# Altium schematic symbol library GPU.SchLib: 3 symbols
Pins are listed as number, name and electrical type; pins without a type are passive.

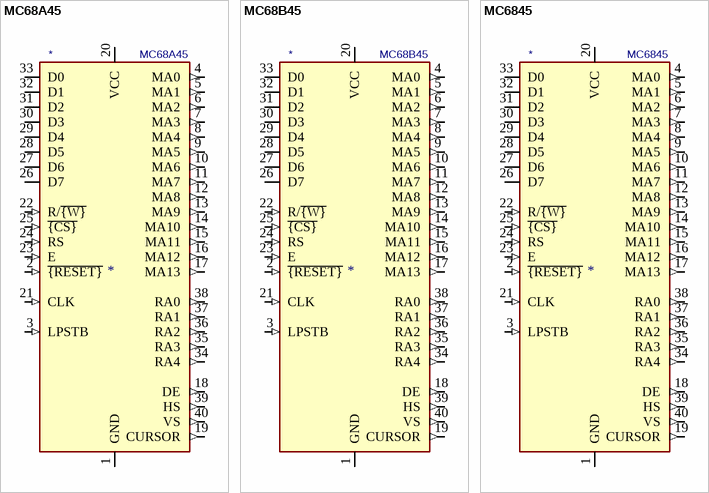
[diagram p0: symbols MC68A45 to MC6845]

## MC68A45
designator *  value MC68A45
ki_keywords: CRT controller; ki_description: CRT Controller 1.5MHz, DIP-40; ki_fp_filters: DIP*W15.24mm*; Footprint: Package_DIP:DIP-40_W15.24mm; Supplier: http://pdf.datasheetcatalog.com/datasheet_pdf/motorola/MC6845L_and_MC6845P.pdf
footprint DIP-40_W15.24mm
pins: 1 GND (power), 2 ~{{RESET}} (in), 3 LPSTB (in), 4 MA0 (out), 5 MA1 (out), 6 MA2 (out), 7 MA3 (out), 8 MA4 (out), 9 MA5 (out), 10 MA6 (out), 11 MA7 (out), 12 MA8 (out), 13 MA9 (out), 14 MA10 (out), 15 MA11 (out), 16 MA12 (out), 17 MA13 (out), 18 DE (out), 19 CURSOR (out), 20 VCC (power), 21 CLK (in), 22 R/~{{W}} (in), 23 E (in), 24 RS (in), 25 ~{{CS}} (in), 26 D7 (io), 27 D6 (io), 28 D5 (io), 29 D4 (io), 30 D3 (io), 31 D2 (io), 32 D1 (io), 33 D0 (io), 34 RA4 (out), 35 RA3 (out), 36 RA2 (out), 37 RA1 (out), 38 RA0 (out), 39 HS (out), 40 VS (out)

## MC68B45
designator *  value MC68B45
ki_keywords: CRT controller; ki_description: CRT Controller 2MHz, DIP-40; ki_fp_filters: DIP*W15.24mm*; Footprint: Package_DIP:DIP-40_W15.24mm; Supplier: http://pdf.datasheetcatalog.com/datasheet_pdf/motorola/MC6845L_and_MC6845P.pdf
footprint DIP-40_W15.24mm
pins: 1 GND (power), 2 ~{{RESET}} (in), 3 LPSTB (in), 4 MA0 (out), 5 MA1 (out), 6 MA2 (out), 7 MA3 (out), 8 MA4 (out), 9 MA5 (out), 10 MA6 (out), 11 MA7 (out), 12 MA8 (out), 13 MA9 (out), 14 MA10 (out), 15 MA11 (out), 16 MA12 (out), 17 MA13 (out), 18 DE (out), 19 CURSOR (out), 20 VCC (power), 21 CLK (in), 22 R/~{{W}} (in), 23 E (in), 24 RS (in), 25 ~{{CS}} (in), 26 D7 (io), 27 D6 (io), 28 D5 (io), 29 D4 (io), 30 D3 (io), 31 D2 (io), 32 D1 (io), 33 D0 (io), 34 RA4 (out), 35 RA3 (out), 36 RA2 (out), 37 RA1 (out), 38 RA0 (out), 39 HS (out), 40 VS (out)

## MC6845
designator *  value MC6845
ki_keywords: CRT controller; ki_description: CRT Controller 1MHz, DIP-40; ki_fp_filters: DIP*W15.24mm*; Footprint: Package_DIP:DIP-40_W15.24mm; Supplier: http://pdf.datasheetcatalog.com/datasheet_pdf/motorola/MC6845L_and_MC6845P.pdf
footprint DIP-40_W15.24mm
pins: 1 GND (power), 2 ~{{RESET}} (in), 3 LPSTB (in), 4 MA0 (out), 5 MA1 (out), 6 MA2 (out), 7 MA3 (out), 8 MA4 (out), 9 MA5 (out), 10 MA6 (out), 11 MA7 (out), 12 MA8 (out), 13 MA9 (out), 14 MA10 (out), 15 MA11 (out), 16 MA12 (out), 17 MA13 (out), 18 DE (out), 19 CURSOR (out), 20 VCC (power), 21 CLK (in), 22 R/~{{W}} (in), 23 E (in), 24 RS (in), 25 ~{{CS}} (in), 26 D7 (io), 27 D6 (io), 28 D5 (io), 29 D4 (io), 30 D3 (io), 31 D2 (io), 32 D1 (io), 33 D0 (io), 34 RA4 (out), 35 RA3 (out), 36 RA2 (out), 37 RA1 (out), 38 RA0 (out), 39 HS (out), 40 VS (out)